# Altium footprint library FEV-60.PcbLib: 4 footprints
Each footprint in its own frame and in the unit in brackets; x right, y up, seen from the top. Pads: shape width x height; smd on the part's side, far side on the other; paste and mask are expansions set on the pad; w line width, h text height; cw(c..) or ccw(c..) is an arc to the next point about the centre after c.
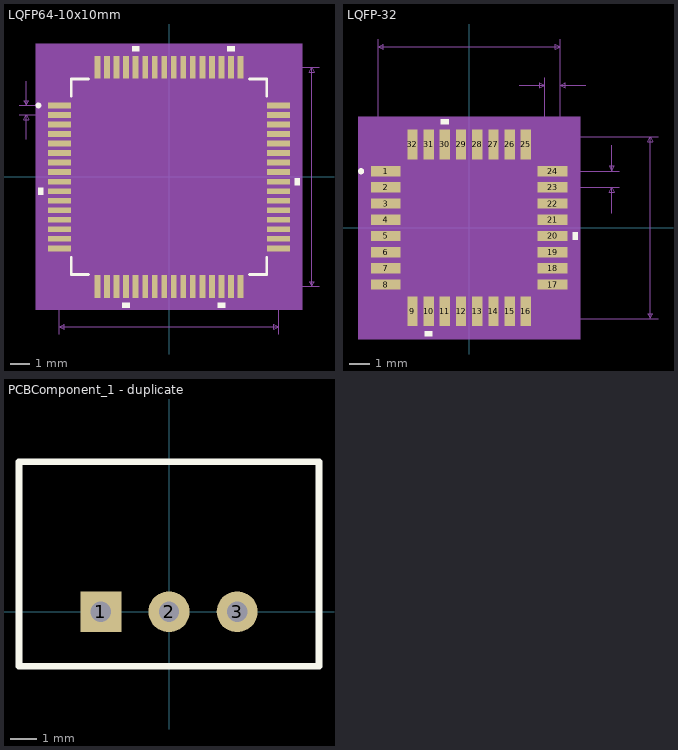
[diagram p0: the footprints below, top view; thin cyan lines are the x and y axes]

## LQFP64-10x10mm [mil]
pads (64):
  rect 47x12 smd: 1(-226.38,147.64) 2(-226.38,127.95) 3(-226.38,108.27) 4(-226.38,88.58) 5(-226.38,68.9) 6(-226.38,49.21) 7(-226.38,29.53) 8(-226.38,9.84) 9(-226.38,-9.84) 10(-226.38,-29.53) 11(-226.38,-49.21) 12(-226.38,-68.9) 13(-226.38,-88.58) 14(-226.38,-108.27) 15(-226.38,-127.95) 16(-226.38,-147.64) 33(226.38,-147.64) 34(226.38,-127.95) 35(226.38,-108.27) 36(226.38,-88.58) 37(226.38,-68.9) 38(226.38,-49.21) 39(226.38,-29.53) 40(226.38,-9.84) 41(226.38,9.84) 42(226.38,29.53) 43(226.38,49.21) 44(226.38,68.9) 45(226.38,88.58) 46(226.38,108.27) 47(226.38,127.95) 48(226.38,147.64)
  rect 12x47 smd: 17(-147.64,-226.38) 18(-127.95,-226.38) 19(-108.27,-226.38) 20(-88.58,-226.38) 21(-68.9,-226.38) 22(-49.21,-226.38) 23(-29.53,-226.38) 24(-9.84,-226.38) 25(9.84,-226.38) 26(29.53,-226.38) 27(49.21,-226.38) 28(68.9,-226.38) 29(88.58,-226.38) 30(108.27,-226.38) 31(127.95,-226.38) 32(147.64,-226.38) 49(147.64,226.38) 50(127.95,226.38) 51(108.27,226.38) 52(88.58,226.38) 53(68.9,226.38) 54(49.21,226.38) 55(29.53,226.38) 56(9.84,226.38) 57(-9.84,226.38) 58(-29.53,226.38) 59(-49.21,226.38) 60(-68.9,226.38) 61(-88.58,226.38) 62(-108.27,226.38) 63(-127.95,226.38) 64(-147.64,226.38)
Top Overlay:
  circle w6: c-269.72,147.64 r3
  region: -61.4,259.88 -76.4,259.88 -76.4,269.88 -61.4,269.88
  region: 135.45,259.88 120.45,259.88 120.45,269.88 135.45,269.88
  region: 259.88,-2.34 269.88,-2.34 269.88,-17.34 259.88,-17.34
  region: 115.77,-259.88 100.77,-259.88 100.77,-269.88 115.77,-269.88
  region: -81.08,-259.88 -96.08,-259.88 -96.08,-269.88 -81.08,-269.88
  region: -259.88,-22.03 -269.88,-22.03 -269.88,-37.03 -259.88,-37.03
  lines w6: -202,-166.71 -202,-202 -166.71,-202 ; -202,166.71 -202,202 -166.71,202 ; 166.71,-202 202,-202 202,-166.71 ; 166.71,202 202,202 202,166.71
Mechanical 5:
  region: 274.88,-274.88 -274.88,-274.88 -274.88,274.88 274.88,274.88
Mechanical 7:
  lines w1: -309.88,127.95 -226.38,127.95 ; -309.88,147.64 -226.38,147.64 ; -294.88,77.95 -294.88,127.95 ; -294.88,197.64 -294.88,147.64 ; -226.38,-324.88 -226.38,-135.64 ; 159.64,-226.38 309.88,-226.38 ; 159.64,226.38 309.88,226.38 ; 226.38,-324.88 226.38,-135.64 ; -294.88,127.95 -289.88,117.95 -299.88,117.95 -294.88,127.95 ; -294.88,147.64 -289.88,157.64 -299.88,157.64 -294.88,147.64 ; -226.38,-309.88 -216.38,-314.88 -216.38,-304.88 -226.38,-309.88 ; -226.38,-309.88 226.38,-309.88 ; 226.38,-309.88 216.38,-314.88 216.38,-304.88 226.38,-309.88 ; 294.88,-226.38 299.88,-216.38 289.88,-216.38 294.88,-226.38 ; 294.88,-226.38 294.88,226.38 ; 294.88,226.38 299.88,216.38 289.88,216.38 294.88,226.38
  text "0.453in/11.5mm" at -87.5,-354.88 h25
  text "0.453in/11.5mm" at 314.88,-12.5 h25
  text "0.02in/0.5mm" at -464.88,125.3 h25
  text "Alt 2 Padstyle: OX90Y60D30P" at -337.5,-749.88 h50
  text "Alt 1 Padstyle: OX60Y90D30P" at -337.5,-689.88 h50
  text "Default Padstyle: RX47Y12D0T" at -350,-509.88 h50
Mechanical 13:
  circle w0: c-177.88,147.64 r3
  lines w1: -197,147 -147,197 ; -197,-197 -197,197 197,197 197,-197 -197,-197
Mechanical 15:
  region: -167.64,-207 -207,-207 -207,-167.64 -269.88,-167.64 -269.88,167.64 -207,167.64 -207,207 -167.64,207 -167.64,269.88 167.64,269.88 167.64,207 207,207 207,167.64 269.88,167.64 269.88,-167.64 207,-167.64 207,-207 167.64,-207 167.64,-269.88 -167.64,-269.88
  lines w6: -269.88,-167.64 -269.88,167.64 -207,167.64 -207,207 -167.64,207 -167.64,269.88 167.64,269.88 167.64,207 207,207 207,167.64 269.88,167.64 269.88,-167.64 207,-167.64 207,-207 167.64,-207 167.64,-269.88 -167.64,-269.88 -167.64,-207 -207,-207 -207,-167.64 -269.88,-167.64
3D body: height 10, standoff 0, extent 0,0 10,10
3D body "LQFP64-10x10mm.step": height 63.11, standoff 0, extent -236.1,-236.1 236.11,236.11

## LQFP-32 [mil]
pads (32):
  rect 58x20 smd: 1(-162,110.24) 2(-162,78.74) 3(-162,47.24) 4(-162,15.75) 5(-162,-15.75) 6(-162,-47.24) 7(-162,-78.74) 8(-162,-110.24) 17(162,-110.24) 18(162,-78.74) 19(162,-47.24) 20(162,-15.75) 21(162,15.75) 22(162,47.24) 23(162,78.74) 24(162,110.24)
  rect 20x58 smd: 9(-110.24,-162) 10(-78.74,-162) 11(-47.24,-162) 12(-15.75,-162) 13(15.75,-162) 14(47.24,-162) 15(78.74,-162) 16(110.24,-162) 25(110.24,162) 26(78.74,162) 27(47.24,162) 28(15.75,162) 29(-15.75,162) 30(-47.24,162) 31(-78.74,162) 32(-110.24,162)
Top Overlay:
  circle w6: c-210,110 r3
  region: -71.24,-201 -86.24,-201 -86.24,-211 -71.24,-211
  region: 201,-8.25 211,-8.25 211,-23.25 201,-23.25
  region: -39.74,201 -54.74,201 -54.74,211 -39.74,211
Mechanical 5:
  region: 216,-216 -216,-216 -216,216 216,216
Mechanical 7:
  lines w1: -177,110.24 -177,367 ; 97,277 147,277 ; 110.24,-177 367,-177 ; 110.24,177 367,177 ; 147,110.24 147,292 ; 162,78.74 292,78.74 ; 162,110.24 292,110.24 ; 177,292 177,110.24 177,367 ; 227,277 177,277 ; 277,28.74 277,78.74 ; 277,160.24 277,110.24 ; -177,352 177,352 ; -177,352 -167,357 -167,347 -177,352 ; 147,277 137,282 137,272 147,277 ; 177,277 187,282 187,272 177,277 ; 177,352 167,357 167,347 177,352 ; 277,78.74 272,68.74 282,68.74 277,78.74 ; 277,110.24 272,120.24 282,120.24 277,110.24 ; 352,-177 352,177 ; 352,-177 347,-167 357,-167 352,-177 ; 352,177 347,167 357,167 352,177
  text "Default Horiz Padstyle: RX20Y58D0T" at -425,-427 h50
  text "Default Vert Padstyle: RX20Y58D0T" at -412.5,-487 h50
  text "Alt 1 Padstyle: OX60Y90D30P" at -337.5,-667 h50
  text "Alt 2 Padstyle: OX90Y60D30P" at -337.5,-727 h50
  text "0.031in/0.8mm" at 297,81.99 h25
  text "0.03in/0.762mm" at 74.5,297 h25
  text "0.354in/8.992mm" at -93.75,372 h25
  text "0.354in/8.992mm" at 372,-12.5 h25
Mechanical 13:
  lines w1: -138,88 -88,138 ; -177,-119.24 -177,-101.24 -138,-101.24 -138,-119.24 -177,-119.24 ; -177,-87.74 -177,-69.74 -138,-69.74 -138,-87.74 -177,-87.74 ; -177,-56.24 -177,-38.24 -138,-38.24 -138,-56.24 -177,-56.24 ; -177,-24.75 -177,-6.75 -138,-6.75 -138,-24.75 -177,-24.75 ; -177,6.75 -177,24.75 -138,24.75 -138,6.75 -177,6.75 ; -177,38.24 -177,56.24 -138,56.24 -138,38.24 -177,38.24 ; -177,69.74 -177,87.74 -138,87.74 -138,69.74 -177,69.74 ; -177,101.24 -177,119.24 -138,119.24 -138,101.24 -177,101.24 ; -138,-138 138,-138 138,138 -138,138 -138,-138 ; -119.24,-177 -119.24,-138 -101.24,-138 -101.24,-177 -119.24,-177 ; -119.24,138 -101.24,138 -101.24,177 -119.24,177 -119.24,138 ; -87.74,-177 -87.74,-138 -69.74,-138 -69.74,-177 -87.74,-177 ; -87.74,138 -69.74,138 -69.74,177 -87.74,177 -87.74,138 ; -56.24,-177 -56.24,-138 -38.24,-138 -38.24,-177 -56.24,-177 ; -56.24,138 -38.24,138 -38.24,177 -56.24,177 -56.24,138 ; -24.75,-177 -24.75,-138 -6.75,-138 -6.75,-177 -24.75,-177 ; -24.75,138 -6.75,138 -6.75,177 -24.75,177 -24.75,138 ; 6.75,-177 6.75,-138 24.75,-138 24.75,-177 6.75,-177 ; 6.75,138 24.75,138 24.75,177 6.75,177 6.75,138 ; 38.24,-177 38.24,-138 56.24,-138 56.24,-177 38.24,-177 ; 38.24,138 56.24,138 56.24,177 38.24,177 38.24,138 ; 69.74,-177 69.74,-138 87.74,-138 87.74,-177 69.74,-177 ; 69.74,138 87.74,138 87.74,177 69.74,177 69.74,138 ; 101.24,-177 101.24,-138 119.24,-138 119.24,-177 101.24,-177 ; 101.24,138 119.24,138 119.24,177 101.24,177 101.24,138 ; 138,-119.24 138,-101.24 177,-101.24 177,-119.24 138,-119.24 ; 138,-87.74 138,-69.74 177,-69.74 177,-87.74 138,-87.74 ; 138,-56.24 138,-38.24 177,-38.24 177,-56.24 138,-56.24 ; 138,-24.75 138,-6.75 177,-6.75 177,-24.75 138,-24.75 ; 138,6.75 138,24.75 177,24.75 177,6.75 138,6.75 ; 138,38.24 138,56.24 177,56.24 177,38.24 138,38.24 ; 138,69.74 138,87.74 177,87.74 177,69.74 138,69.74 ; 138,101.24 138,119.24 177,119.24 177,101.24 138,101.24
  text "*" at -135.5,100.98 h50
Mechanical 15:
  region: -130.24,-148 -148,-148 -148,-130.24 -207,-130.24 -207,130.24 -148,130.24 -148,148 -130.24,148 -130.24,207 130.24,207 130.24,148 148,148 148,130.24 207,130.24 207,-130.24 148,-130.24 148,-148 130.24,-148 130.24,-207 -130.24,-207
  lines w6: -207,-130.24 -148,-130.24 -148,-148 -130.24,-148 -130.24,-207 130.24,-207 130.24,-148 148,-148 148,-130.24 207,-130.24 207,130.24 148,130.24 148,148 130.24,148 130.24,207 -130.24,207 -130.24,148 -148,148 -148,130.24 -207,130.24 -207,-130.24
3D body: height 10, standoff 0, extent 0,0 10,10
3D body "LQFP-32.step": height 63.11, standoff 0, extent -177,-177 177.01,177.02

## PCBComponent_1 [mil]

## PCBComponent_1 - duplicate [mil]
pads (3):
  rect 60x60 hole 30: 1(-100,0)
  round 60 hole 30: 2(0,0) 3(100,0)
Top Overlay:
  lines w10: -220,-80 0,-80 220,-80 220,220 -220,220 -220,-80